# Altium schematic symbol library TPS61032PWPR.SchLib: 1 symbol
Pins are listed as number, name and electrical type; pins without a type are passive.

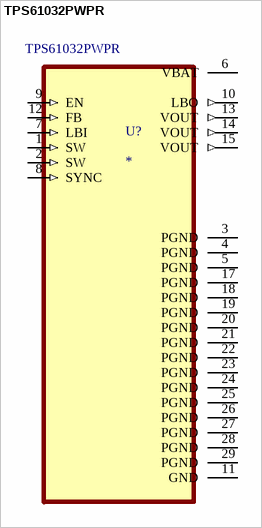
[diagram p0: symbol TPS61032PWPR]

## TPS61032PWPR
designator U?  Supplier Part Number 1: TPS61032PWPR
MF: {'manufacturer': u'Texas Instruments'}; Value: *; MP: TPS61032PWPR; Package: None; Price: None; Availability: Unavailable; Supplier 1: Arrow Electronics
footprint SOP65P640X120-17N
pins: 1 SW (in), 2 SW (in), 3 PGND (power), 4 PGND (power), 5 PGND (power), 6 VBAT (power), 7 LBI (in), 8 SYNC (in), 9 EN (in), 10 LBO (out), 11 GND (power), 12 FB (in), 13 VOUT (out), 14 VOUT (out), 15 VOUT (out), 17 PGND (power), 18 PGND (power), 19 PGND (power), 20 PGND (power), 21 PGND (power), 22 PGND (power), 23 PGND (power), 24 PGND (power), 25 PGND (power), 26 PGND (power), 27 PGND (power), 28 PGND (power), 29 PGND (power)